# Altium footprint library PCB_Battery.PcbLib: 2 footprints
Each footprint in its own frame and in the unit in brackets; x right, y up, seen from the top. Pads: shape width x height; smd on the part's side, far side on the other; paste and mask are expansions set on the pad; w line width, h text height; cw(c..) or ccw(c..) is an arc to the next point about the centre after c.
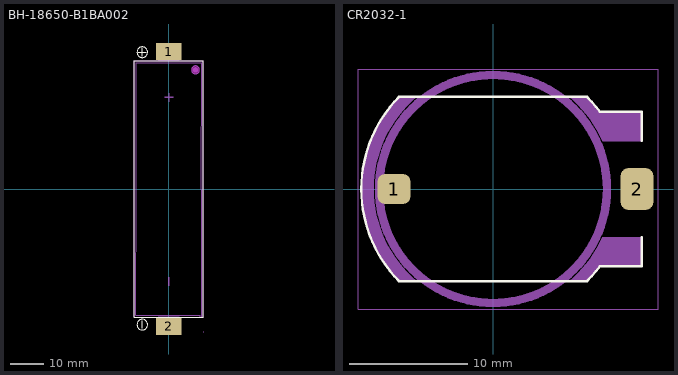
[diagram p0: the footprints below, top view; thin cyan lines are the x and y axes]

## BH-18650-B1BA002 [mil] "18650电池座"
pads (2):
  rect 300x200 smd: 1(0,1626.5) 2(0,-1626.5)
Top Overlay:
  circle w10: c-314.96,-1606.81 r63
  circle w10: c-315.31,1620 r63
  lines w10: -360.31,1620 -270.31,1620 ; -315.31,1575 -315.31,1665 ; -314.96,-1651.81 -314.96,-1561.81 ; -407.5,-1517.5 -407.5,1517.5 407.5,1517.5 407.5,-1517.5 -407.5,-1517.5
Keep-Out Layer:
  board cut-out: 362.2,1411.02 362.15,1417.2 358.86,1429.12 352.61,1439.79 343.82,1448.5 333.09,1454.65 321.14,1457.83 308.78,1457.83 296.83,1454.65 286.1,1448.5 277.32,1439.79 271.07,1429.12 267.78,1417.2 267.72,1411.02 267.78,1404.84 271.07,1392.92 277.32,1382.25 286.1,1373.54 296.83,1367.39 308.78,1364.21 321.14,1364.21 333.09,1367.39 343.82,1373.54 352.61,1382.25 358.86,1392.92 362.15,1404.84
Mechanical 1:
  circle w0.2: c314.96,1411.02 r47.24
Mechanical 6:
  circle w30.95: c314.96,1411.02 r15.47
  region: 4.98,-1045.59 -5.02,-1045.59 -5.02,-1145.59 4.98,-1145.59
  region: 5.42,1135.07 -4.58,1135.07 -4.58,1035.07 5.42,1035.07
  region: 49.6,1079.81 49.6,1089.81 -50.4,1089.81 -50.4,1079.81
B-Component:
  region: -125,1693.5 -125,1516.5 125,1516.5 125,1691.5
  region: -125,-1512.5 -125,-1693.5 125,-1693.5 125,-1512.5
  region: 409.84,-1693.5 409.81,-1692.55 408.44,-1691.21 406.52,-1691.21 405.15,-1692.54 405.12,-1693.5 405.15,-1694.46 406.52,-1695.79 408.44,-1695.8 409.81,-1694.46
  lines w2: -407.48,-1516.73 374.01,-1515.74 374.01,-1496.06 -393.7,-1496.06 -385.83,0 -385.83,1496.06 389.76,1496.06 381.89,-11.81 385.83,-1515.74 407.48,-1516.73 407.48,1516.73 -407.48,1516.73 -407.48,-1516.73
Multi-Layer keep-out:
  region: 362.2,1411.02 362.15,1417.2 358.86,1429.12 352.61,1439.79 343.82,1448.5 333.09,1454.65 321.14,1457.83 308.78,1457.83 296.83,1454.65 286.1,1448.5 277.32,1439.79 271.07,1429.12 267.78,1417.2 267.72,1411.02 267.78,1404.84 271.07,1392.92 277.32,1382.25 286.1,1373.54 296.83,1367.39 308.78,1364.21 321.14,1364.21 333.09,1367.39 343.82,1373.54 352.61,1382.25 358.86,1392.92 362.15,1404.84
3D body "3D_PCB1_2024-02-24.step": height 588.98, standoff -59.06, extent -406.5,-1693.5 406.89,1693.5

## CR2032-1 [mil]
pads (2):
  rrect50% 110x100 smd: 1(-330,0)
  rrect50% 110x140 smd: 2(480,0)
Top Overlay:
  lines w8: 495.61,-161.42 495.61,-256.94 355.95,-256.94 cw(c0,0) 313.76,-307.01 -313.76,-307.01 cw(c0,0) -313.76,307.01 313.76,307.01 cw(c0,0) 355.92,256.94 495.61,256.94 495.61,161.42
Mechanical 13:
  circle w28: c0,0 r380
  region: 365.54,161.44 360.75,171.88 350.28,192.33 338.65,212.14 325.9,231.25 312.07,249.6 297.21,267.12 281.37,283.76 264.59,299.46 255.88,306.94 255.88,306.87 313.76,306.87 313.76,307.01 319.49,301.16 330.5,289.03 341.05,276.5 351.13,263.58 355.92,256.94 495.61,256.94 495.61,161.42
  region: -313.76,-307.01 -325.66,-294.85 -347.49,-268.77 -367.25,-241.08 -384.8,-211.94 -400.05,-181.53 -412.89,-150.03 -423.26,-117.64 -431.1,-84.53 -436.34,-50.92 -438.98,-17.01 -438.98,17.01 -436.34,50.92 -431.1,84.53 -423.26,117.64 -412.89,150.03 -400.05,181.53 -384.8,211.94 -367.25,241.08 -347.49,268.77 -325.65,294.85 -313.76,307.01 -255.88,307.01 -255.88,306.94 -269.07,295.44 -293.88,270.77 -316.44,244.03 -336.58,215.41 -354.13,185.14 -368.97,153.46 -380.98,120.59 -390.06,86.8 -396.16,52.35 -399.22,17.49 -399.22,-17.49 -396.16,-52.35 -390.06,-86.8 -380.98,-120.59 -368.97,-153.46 -354.13,-185.14 -336.58,-215.41 -316.44,-244.03 -293.88,-270.77 -269.07,-295.44 -255.88,-306.94 -255.88,-307.01
  region: 313.76,-307.01 319.49,-301.15 330.5,-289.02 341.06,-276.49 351.14,-263.57 355.93,-256.93 355.95,-256.94 495.61,-256.94 495.61,-161.42 365.54,-161.42 365.54,-161.44 360.75,-171.88 350.28,-192.33 338.65,-212.14 325.9,-231.25 312.07,-249.6 297.21,-267.12 281.37,-283.76 264.59,-299.46 255.88,-306.94 255.88,-307.01
  lines w2: -255.88,-306.94 cw(c0,0) -255.88,306.94 ; 255.88,-306.94 ccw(c0,0) 365.54,-161.44 ; 255.88,306.87 313.76,306.87 ; 255.88,306.94 cw(c0,0) 365.54,161.44 ; 255.88,307.01 -313.76,307.01 ccw(c0,0) -313.76,-307.01 255.88,-307.01 313.76,-307.01 ccw(c0,0) 355.93,-256.93 495.61,-256.94 495.61,-161.42 365.54,-161.42 ; 313.76,307.01 cw(c0,0) 355.92,256.94 495.61,256.94 495.61,161.42 365.5,161.42
T-Component:
  lines w2: -450,-400 550,-400 550,400 -450,400 -450,-400
  text ".Designator" at -65,-25 h50
3D body "User Library-BLP2032M-G.STEP": height 191.34, standoff 0, extent -425.12,-297.24 510.32,297.25